# EAGLE library part M220 (library dec-m)
PDP-8 Major Registers
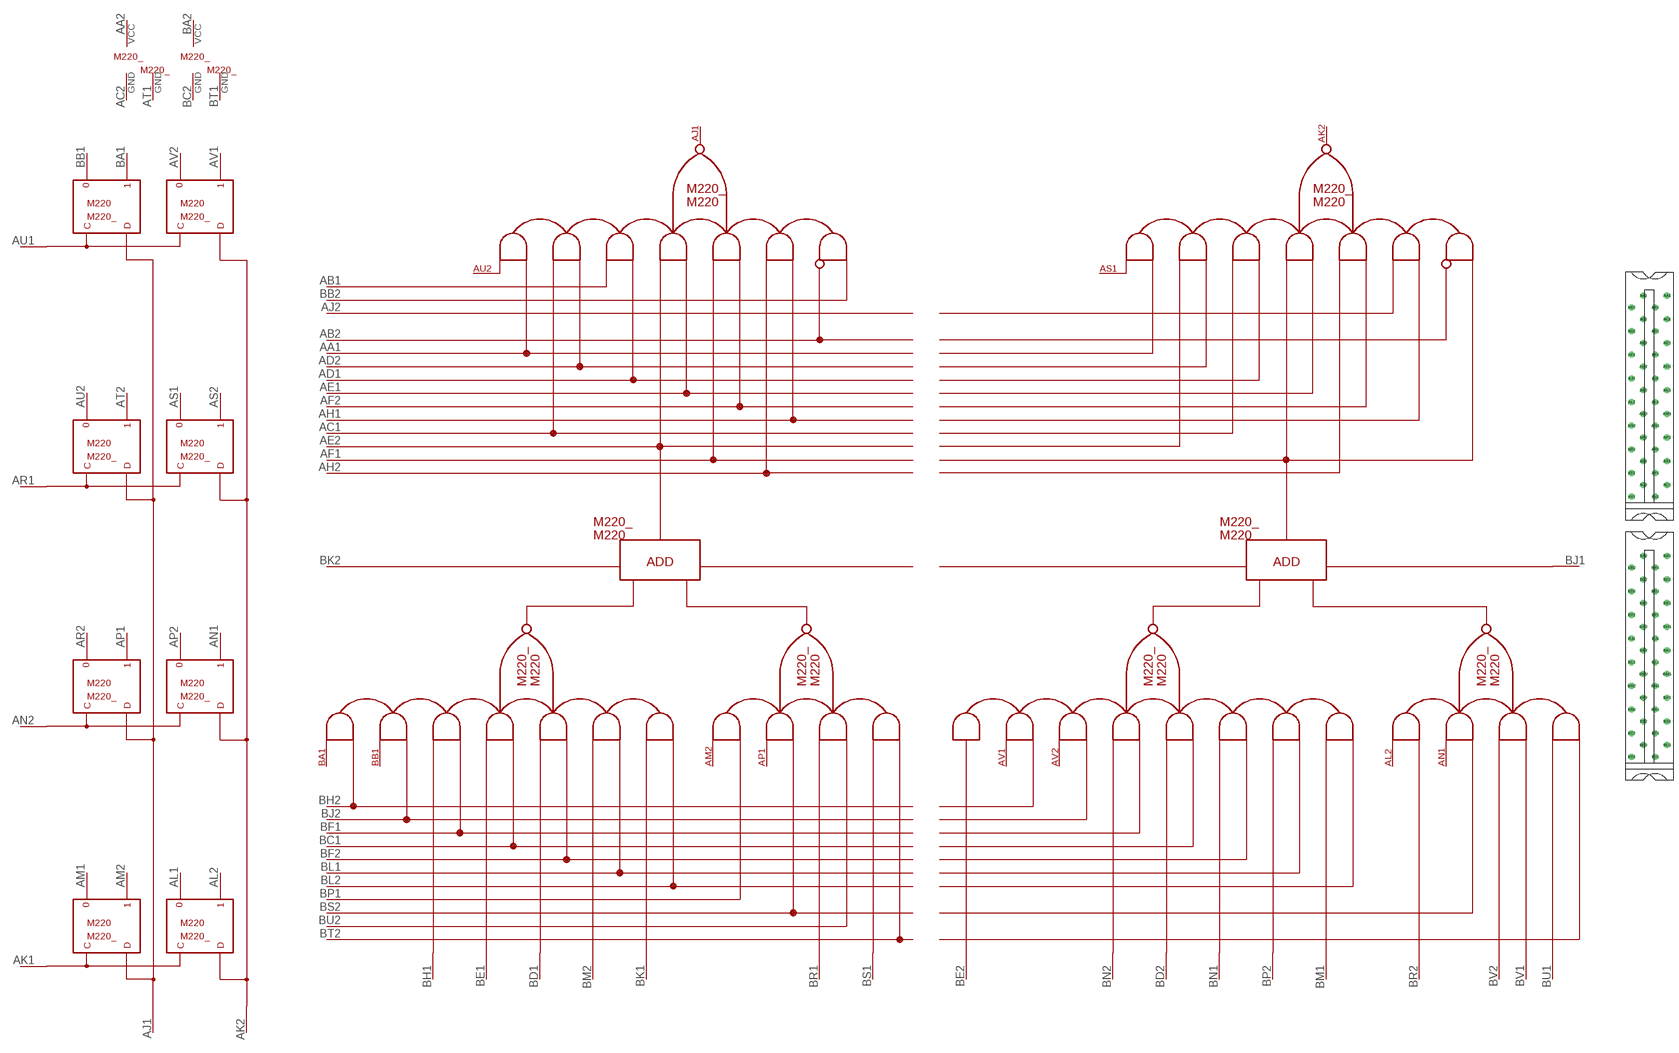
[diagram p74: symbol with the pads of H807-2; footprint H807-2]

Designator prefix M220_; gates G$1=M220A G$2=POWER G$3=POWER G$4=T1GND G$5=T1GND B0=M220B B1=M220C

## M220  [H807-2]
AA1  B0:AA1  in
AA2  G$2:VCC  pwr
AB1  B0:AB1  in
AB2  B0:AB2  in
AC1  B0:AC1  in
AC2  G$2:GND  pwr
AD1  B0:AD1  in
AD2  B0:AD2  in
AE1  B0:AE1  in
AE2  B0:AE2  out
AF1  B0:AF1  out
AF2  B0:AF2  in
AH1  B0:AH1  in
AH2  B0:AH2  in
AJ1  G$1:AJ1  out
AJ2  B0:AJ2  in
AK1  G$1:AK1  in
AK2  G$1:AK2  out
AL1  G$1:AL1  out
AL2  G$1:AL2  out
AM1  G$1:AM1  out
AM2  G$1:AM2  out
AN1  G$1:AN1  out
AN2  G$1:AN2  in
AP1  G$1:AP1  out
AP2  G$1:AP2  out
AR1  G$1:AR1  in
AR2  G$1:AR2  out
AS1  G$1:AS1  out
AS2  G$1:AS2  out
AT1  G$4:GND  pwr
AT2  G$1:AT2  out
AU1  G$1:AU1  in
AU2  G$1:AU2  out
AV1  G$1:AV1  out
AV2  G$1:AV2  out
BA1  G$1:BA1  out
BA2  G$3:VCC  pwr
BB1  G$1:BB1  out
BB2  B0:BB2  in
BC1  B0:BC1  in
BC2  G$3:GND  pwr
BD1  B0:BD1  in
BD2  B1:BD2  in
BE1  B0:BE1  in
BE2  B1:BE2  in
BF1  B0:BF1  in
BF2  B0:BF2  in
BH1  B0:BH1  in
BH2  B0:BH2  in
BJ1  B1:BJ1  in
BJ2  B0:BJ2  in
BK1  B0:BK1  in
BK2  B0:BK2  out
BL1  B0:BL1  in
BL2  B0:BL2  in
BM1  B1:BM1  in
BM2  B0:BM2  in
BN1  B1:BN1  in
BN2  B1:BN2  in
BP1  B0:BP1  in
BP2  B1:BP2  in
BR1  B0:BR1  in
BR2  B1:BR2  in
BS1  B0:BS1  in
BS2  B0:BS2  in
BT1  G$5:GND  pwr
BT2  B0:BT2  in
BU1  B1:BU1  in
BU2  B0:BU2  in
BV1  B1:BV1  in
BV2  B1:BV2  in

## Footprint H807-2 (pad centres in mm)
Two-wide Female Edge Connector
drill 1.092 octagon: AA1 4.763,60.325; AA2 -1.587,60.325; AB1 1.587,57.15; AB2 -4.763,57.15; AC1 4.763,53.975; AC2 -1.587,53.975; AD1 1.587,50.8; AD2 -4.763,50.8; AE1 4.763,47.625; AE2 -1.587,47.625; AF1 1.587,44.45; AF2 -4.763,44.45; AH1 4.763,41.275; AH2 -1.587,41.275; AJ1 1.587,38.1; AJ2 -4.763,38.1; AK1 4.763,34.925; AK2 -1.587,34.925; AL1 1.587,31.75; AL2 -4.763,31.75; AM1 4.763,28.575; AM2 -1.587,28.575; AN1 1.587,25.4; AN2 -4.763,25.4; AP1 4.763,22.225; AP2 -1.587,22.225; AR1 1.587,19.05; AR2 -4.763,19.05; AS1 4.763,15.875; AS2 -1.587,15.875; AT1 1.587,12.7; AT2 -4.763,12.7; AU1 4.763,9.525; AU2 -1.587,9.525; AV1 1.587,6.35; AV2 -4.763,6.35; BA1 4.763,-9.525; BA2 -1.587,-9.525; BB1 1.587,-12.7; BB2 -4.763,-12.7; BC1 4.763,-15.875; BC2 -1.587,-15.875; BD1 1.587,-19.05; BD2 -4.763,-19.05; BE1 4.763,-22.225; BE2 -1.587,-22.225; BF1 1.587,-25.4; BF2 -4.763,-25.4; BH1 4.763,-28.575; BH2 -1.587,-28.575; BJ1 1.587,-31.75; BJ2 -4.763,-31.75; BK1 4.763,-34.925; BK2 -1.587,-34.925; BL1 1.587,-38.1; BL2 -4.763,-38.1; BM1 4.763,-41.275; BM2 -1.587,-41.275; BN1 1.587,-44.45; BN2 -4.763,-44.45; BP1 4.763,-47.625; BP2 -1.587,-47.625; BR1 1.587,-50.8; BR2 -4.763,-50.8; BS1 4.763,-53.975; BS2 -1.587,-53.975; BT1 1.587,-57.15; BT2 -4.763,-57.15; BU1 4.763,-60.325; BU2 -1.587,-60.325; BV1 1.587,-63.5; BV2 -4.763,-63.5